# EAGLE library part AP3513E (library LD1117S33TR)
AP3513E switching regulator The Diodes, Inc. AP3513E is a 500kHz fixed frequency, current mode, PWM synchronous buck (step-down) DC-DC converter, capable of driving a 3A load with high efficiency, excellent line and load regulation. The AP3513E exhibits high efficiency at light load. The device integrates N-channel power MOSFET switch with low on-resistance. Current mode control provides fast transient response and cycle-by-cycle current limit. The AP3513E employs complete protection to ensure system security, including output Over Voltage Protection, input Under Voltage Lock Out, programmable Soft-start, Over Temperature Protection and hiccup mode Short Circuit Protection. datasheet.pdf <http://www.diodes.com/_files/datasheets/AP3513E.pdf> Features Input Voltage Range: 4.5V to 18V Fixed 500kHz Frequency High Efficiency at Light Load Output Current: 3A Current Mode Control Built-in Over Current Protection Built-in Thermal Shutdown Function Built-in UVLO Function Built-in Over Voltage Protection Programmable Soft-start Hiccup Mode SCP
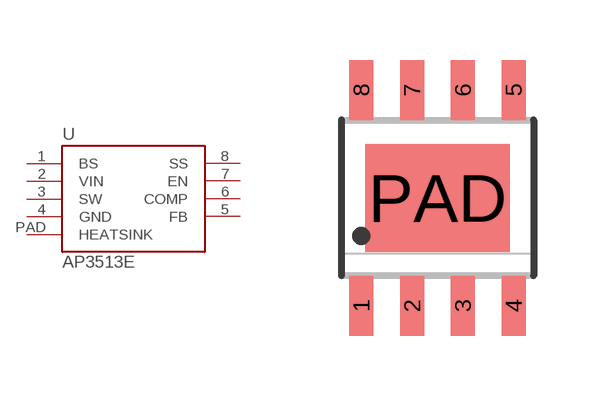
[diagram p2: symbol with the pads of SO-8EP; footprint SO-8EP]

Designator prefix U

## AP3513E  [SO-8EP]
1  BS
2  VIN
3  SW
4  GND
5  FB
6  COMP
7  EN
8  SS
PAD  HEATSINK

## Footprint SO-8EP (pad centres in mm)
smd 0.6 x 1.5: 1 -1.905,-2.7; 2 -0.635,-2.7; 3 0.635,-2.7; 4 1.905,-2.7; 5 1.905,2.7; 6 0.635,2.7; 7 -0.635,2.7; 8 -1.905,2.7
smd 3.6 x 2.7: PAD 0,0